# Altium schematic symbol library SwitchingPowerSupply_Symbols.SchLib: 19 symbols
Pins are listed as number, name and electrical type; pins without a type are passive.

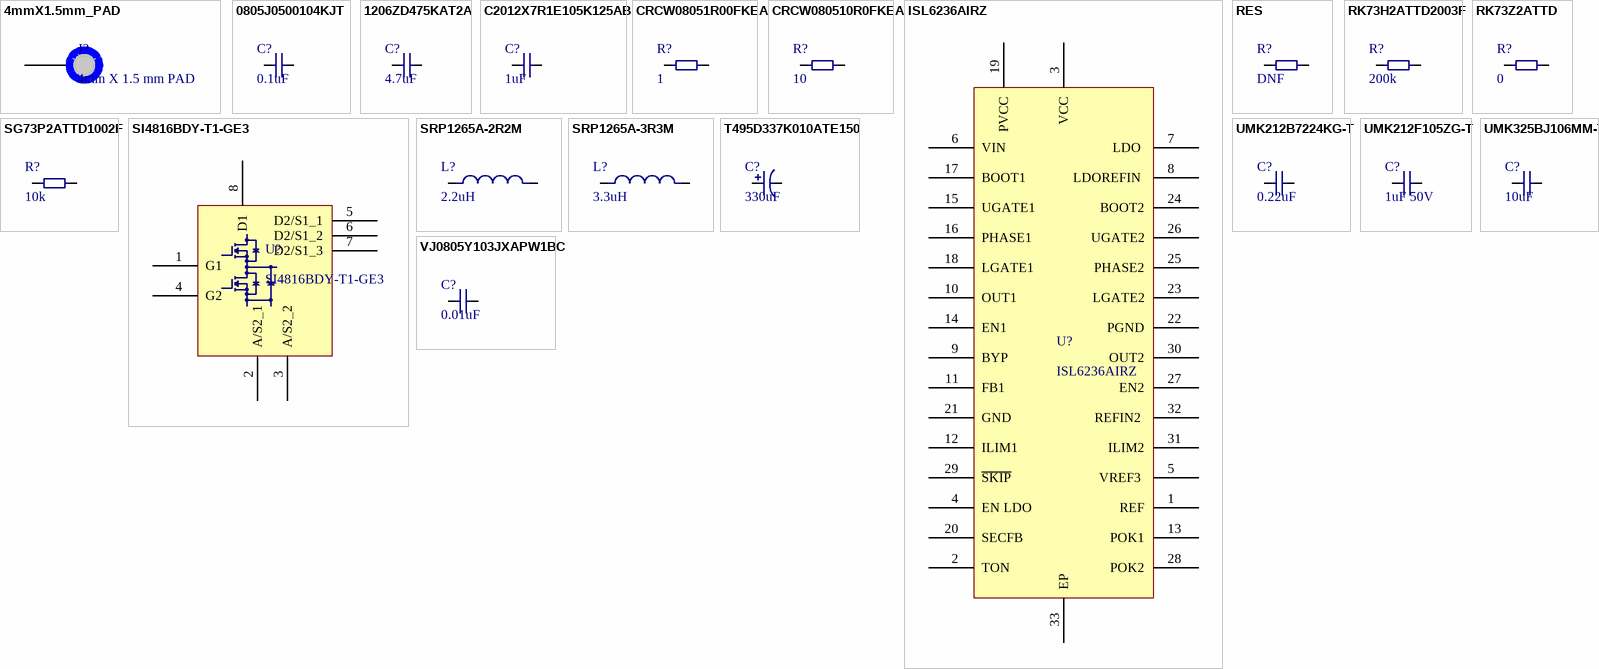
[diagram p0: symbols 4mmX1.5mm_PAD to VJ0805Y103JXAPW1BC]

## 4mmX1.5mm_PAD
designator J?, comment 4mm X 1.5 mm PAD
Elliptical pad 4mm x 1.5 mm
footprint PAD_WITH_HOLE_4mmX1.5mm
pins: 1

## 0805J0500104KJT
designator C?, comment 0.1uF
Multilayer Ceramic Capacitors MLCC - SMD/SMT 50volts 0.1uF 10%; Manufacturer: Syfer; Manufacturer Part Number: 0805J0500104KJT; Type: X7R MLC Capacitor; Voltage Rating: 50 V; Temperature Coefficient/Code: X7R; Product Status: New at Mouser; Supplier 1: Mouser; RoHS: RoHS Compliant; Category: Multilayer Ceramic Capacitors MLCC - SMD/SMT; Stock 1: 0; Pricing 1: 1=0.048, 50=0.047, 100=0.044, 500=0.041, 1000=0.034, 3000=0.030, 6000=0.029, 9000=0.027, 12000=0.022 (EUR); Capacitance: 0.1 uF; Operating Temperature Range: - 55 C to + 125 C; Package/Case: 0805 (2012 metric); Packaging: Reel; Product: General Type MLCCs; Series: PSL; Termination Style: SMD/SMT; Tolerance: 10 %; Brand: Syfer; Case Code - in: 0805; Case Code - mm: 2012; Maximum Operating Temperature: + 125 C; Minimum Operating Temperature: - 55 C; RoHS - Mouser: Y; Minimum Order Quantity: 1; Reeling: True; ComponentLink1URL: http://www.mouser.com/ds/2/394/SL-335134.pdf; ComponentLink1Description: http://www.mouser.com/ds/2/394/SL-335134.pdf
footprint C0805
pins: 1, 2

## 1206ZD475KAT2A
designator C?, comment 4.7uF
Multilayer Ceramic Capacitors MLCC - SMD/SMT 1206 4.7uF 10volts X5R 10%; Manufacturer: AVX; Manufacturer Part Number: 1206ZD475KAT2A; Type: Commercial Surface Mount Chip; Voltage Rating: 10 V; Case Height: 0.07 mm; Case Length: 3.2 mm; Case Width: 1.6 mm; Supplier 1: Mouser; RoHS: RoHS Compliant By Exemption; Category: Multilayer Ceramic Capacitors MLCC - SMD/SMT; Stock 1: 2430; Pricing 1: 1=0.216, 50=0.172, 100=0.091, 500=0.074, 1000=0.068, 2000=0.061, 4000=0.056, 8000=0.054, 12000=0.046 (EUR); Capacitance: 4.7 uF; Operating Temperature Range: - 55 C to + 85 C; Package/Case: 1206 (3216 metric); Packaging: Reel; Product: General Type MLCCs; Series: 1206; Termination Style: SMD/SMT; Tolerance: 10 %; Brand: AVX; Case Code - in: 1206; Case Code - mm: 3216; Product Category: High Capacitance SMD Ceramic Chip Capacitors; Standard Pack Qty: 2000; Temperature Coefficient/Code: X5R; RoHS - Mouser: E; Minimum Order Quantity: 1; Reeling: True; ComponentLink1URL: http://www.avx.com/docs/Catalogs/cx5r.pdf; ComponentLink1Description: http://www.avx.com/docs/Catalogs/cx5r.pdf
footprint C1206
pins: 1, 2

## C2012X7R1E105K125AB
designator C?, comment 1uF
Multilayer Ceramic Capacitors MLCC - SMD/SMT 0805 1uF 25volts X7R 10%; Manufacturer: TDK; Manufacturer Part Number: C2012X7R1E105K125AB; Type: Multilayer Ceramic Chip Capacitor; Voltage Rating: 25 V; Case Height: 1.25 mm; Case Length: 2 mm; Supplier 1: Mouser; RoHS: RoHS Compliant; Category: Multilayer Ceramic Capacitors MLCC - SMD/SMT; Stock 1: 140119; Pricing 1: 1=0.120, 10=0.050, 100=0.030, 1000=0.024, 2000=0.018, 10000=0.017, 24000=0.016, 50000=0.014, 100000=0.012 (EUR); Capacitance: 1 uF; Operating Temperature Range: - 55 C to + 125 C; Package/Case: 0805 (2012 metric); Packaging: Reel; Product: General Type MLCCs; Series: C; Termination Style: SMD/SMT; Tolerance: 10 %; Brand: TDK; Case Code - in: 0805; Case Code - mm: 2012; Case Width: 1.25 mm; Product Category: High Capacitance SMD Ceramic Chip Capacitors; Standard Pack Qty: 2000; Temperature Coefficient/Code: X7R; RoHS - Mouser: Y; Minimum Order Quantity: 1; Reeling: True; ComponentLink1URL: http://www.mouser.com/ds/2/400/C2012X7R1E105K125AB-264897.pdf; ComponentLink1Description: http://www.mouser.com/ds/2/400/C2012X7R1E105K125AB-264897.pdf
footprint C0805
pins: 1, 2

## CRCW08051R00FKEA
designator R?, comment 1
Thick Film Resistors - SMD 1/8watt 1ohms 100ppm; Manufacturer: Vishay / Dale; Manufacturer Part Number: CRCW08051R00FKEA; Power Rating: 125 mW (1/8 W); Temperature Coefficient: 100 PPM / K; Tolerance: 1 %; Voltage Rating: 150 V; Case Height: 0.45 mm; Case Length: 2 mm; Case Width: 1.25 mm; Supplier 1: Mouser; RoHS: RoHS Compliant By Exemption; Category: Thick Film Resistors - SMD; Stock 1: 93546; Pricing 1: 1=0.064, 10=0.038, 100=0.022, 1000=0.014, 5000=0.004, 100000=0.003 (EUR); Operating Temperature Range: - 55 C to + 155 C; Package/Case: 0805 (2012 metric); Packaging: Reel; Product: Thick Film Resistors SMD; Resistance: 1 Ohms; Series: CRCW; Brand: Vishay / Dale; Case Code - in: 0805; Case Code - mm: 2012; Product Category: 0805 Thick Film Chip Resistors; Standard Pack Qty: 5000; RoHS - Mouser: E; Minimum Order Quantity: 1; Reeling: True; ComponentLink1URL: http://www.mouser.com/ds/2/427/dcrcwe3-109170.pdf; ComponentLink1Description: http://www.mouser.com/ds/2/427/dcrcwe3-109170.pdf
footprint R0805
pins: 1, 2

## CRCW080510R0FKEA
designator R?, comment 10
Thick Film Resistors - SMD 1/8watt 10ohms 1% 100ppm; Manufacturer: Vishay / Dale; Manufacturer Part Number: CRCW080510R0FKEA; Power Rating: 125 mW (1/8 W); Temperature Coefficient: 100 PPM / K; Voltage Rating: 150 V; Case Height: 0.45 mm; Case Length: 2 mm; Case Width: 1.25 mm; Supplier 1: Mouser; RoHS: RoHS Compliant By Exemption; Category: Thick Film Resistors - SMD; Stock 1: 355552; Pricing 1: 1=0.064, 10=0.038, 100=0.022, 1000=0.014, 5000=0.004, 100000=0.003 (EUR); Operating Temperature Range: - 55 C to + 155 C; Package/Case: 0805 (2012 metric); Packaging: Reel; Product: Thick Film Resistors SMD; Resistance: 10 Ohms; Series: CRCW; Tolerance: 1 %; Brand: Vishay / Dale; Case Code - in: 0805; Case Code - mm: 2012; Product Category: 0805 Thick Film Chip Resistors; Standard Pack Qty: 5000; RoHS - Mouser: E; Minimum Order Quantity: 1; Reeling: True; ComponentLink1URL: http://www.mouser.com/ds/2/427/dcrcwe3-109170.pdf; ComponentLink1Description: http://www.mouser.com/ds/2/427/dcrcwe3-109170.pdf
footprint R0805
pins: 1, 2

## ISL6236AIRZ
designator U?
Switching Controllers ISL6236 QD QUTPUT CNTRLR IMVP-6 32LD; Manufacturer: Intersil; Number of Outputs: 2; Output Current: 20000 mA; Switching Frequency: 200 KHz, 300 KHz, 400 KHz, 500 KHz; Supplier 1: Mouser; Manufacturer Part Number: ISL6236AIRZ; RoHS: RoHS Compliant; Category: Switching Controllers; Stock 1: 36; Pricing 1: 1=8.69, 25=7.06, 100=5.99, 500=4.01 (AUD); Package / Case: QFN EP; Packaging: Tube; Series: ISL6236; Brand: Intersil; Maximum Operating Temperature: + 100 C; Minimum Operating Temperature: - 40 C; Standard Pack Qty: 60; RoHS - Mouser: Y; Minimum Order Quantity: 1; Reeling: False; ComponentLink1URL: http://www.mouser.com/ds/2/465/fn6453-80078.pdf; ComponentLink1Description: http://www.mouser.com/ds/2/465/fn6453-80078.pdf; Supplier Part Number 1: 968-ISL6236AIRZ
footprint L32.5x5B
pins: 1 REF "2V Reference Output. Bypass to GND with a 0.1µF (min) capacitor. REF can source up to 50µA for external loads.   Loading REF degrades FB and output accuracy according to the REF load-regulation error.", 2 TON  "Frequency Select Input. Connect to GND for 400kHz/500kHz operation. Connect to REF (or leave OPEN) for   400kHz/300kHz operation. Connect to VCC for 200kHz/300kHz operation (5V/3.3V SMPS switching frequencies,  respectively).", 3 VCC "Analog Supply Voltage Input for PWM Core. Bypass to GND with a 1µF ceramic capacitor.", 4 EN LDO "LDO Enable Input. The LDO is enabled if EN LDO is within logic high level and disabled if EN LDO is less than the logic   low level.", 5 VREF3  "3.3V Reference Output. VREF3 can source up to 5mA for external loads. Bypass to GND with a 0.01µF capacitor if   loaded. Leave open if there is no load.", 6 VIN "Power-Supply Input. VIN is used for the constant-on-time PWM on-time one-shot circuits. VIN is also used to power the   linear regulators. The linear regulators are powered by SMPS1 if OUT1 is set greater than 4.78V and BYP is tied to  OUT1. Connect VIN to the battery input and bypass with a 1µF capacitor.", 7 LDO  "Linear-Regulator Output. LDO can provide a total of 100mA external loads. The LDO regulates at 5V If LDOREFIN is   connected to GND. When the LDO is set at 5V and BYP is within 5V switchover threshold, the internal regulator shuts  down and the LDO output pin connects to BYP through a 0.7Ω switch. The LDO regulates at 3.3V if LDOREFIN is  connected to VCC. When the LDO is set at 3.3V and BYP is within the 3.3V switchover threshold, the internal regulator  shuts down and the LDO output pin connects to BYP through a 1.5Ω switch. Bypass LDO output with a minimum of  4.7µF ceramic.", 8 LDOREFIN  "LDO Reference Input. Connect LDOREFIN to GND for fixed 5V operation. Connect LDOREFIN to VCC for fixed 3.3V   operation. LDOREFIN can be used to program LDO output voltage from 0.7V to 4.5V. LDO output is two times the  voltage of LDOREFIN. There is no switchover in adjustable mode.", 9 BYP  "BYP is the switchover source voltage for the LDO when LDOREFIN is connected to GND or VCC. Connect BYP to 5V   if LDOREFIN is tied to GND. Connect BYP to 3.3V if LDOREFIN is tied to VCC.", 10 OUT1  "SMPS1 Output Voltage-Sense Input. Connect to the SMPS1 output. OUT1 is an input to the Constant on-time-PWM   on-time one-shot circuit. It also serves as the SMPS1 feedback input in fixed-voltage mode.", 11 FB1 "SMPS1 Feedback Input. Connect FB1 to GND for fixed 5V operation. Connect FB1 to VCC for fixed 1.5V operation.   Connect FB1 to a resistive voltage-divider from OUT1 to GND to adjust the output from 0.7V to 5.5V.", 12 ILIM1  "SMPS1 Current-Limit Adjustment. The GND-PHASE1 current-limit threshold is 1/10th the voltage seen at ILIM1 over a   0.2V to 2V range. There is an internal 5µA current source from VCC to ILIM1. Connect ILIM1 to REF for a fixed 200mV  threshold. The logic current limit threshold is default to 100mV value if ILIM1 is higher than VCC - 1V.", 13 POK1 "SMPS1 Power-Good Open-Drain Output. POK1 is low when the SMPS1 output voltage is more than 10% below the   normal regulation point or during soft-start. POK1 is high impedance when the output is in regulation and the soft-start  circuit has terminated. POK1 is low in shutdown.", 14 EN1 "SMPS1 Enable Input. The SMPS1 is enabled if EN1 is greater than the logic high level and disabled if EN1 is less than   the logic low level. If EN1 is connected to REF, the SMPS1 starts after the SMPS2 reaches regulation (delay start). Drive   EN1 below 0.8V to clear fault level and reset the fault latches.", 15 UGATE1 "High-Side MOSFET Floating Gate-Driver Output for SMPS1. UGATE1 swings between PHASE1 and BOOT1.", 16 PHASE1 "Inductor Connection for SMPS1. PHASE1 is the internal lower supply rail for the UGATE1 high-side gate driver.   PHASE1 is the current-sense input for the SMPS1.", 17 BOOT1 "Boost Flying Capacitor Connection for SMPS1. Connect to an external capacitor according to the “Typical Application   Circuits” on page 19 (Figures 66, 67 and 68). See “MOSFET Gate Drivers (UGATE, LGATE)” on page 29.", 18 LGATE1 "SMPS1 Synchronous-Rectifier Gate-Drive Output. LGATE1 swings between GND and PVCC.", 19 PVCC "PVCC is the supply voltage for the low-side MOSFET driver LGATE. Connect a 5V power source to the PVCC pin and   bypass to PGND with a 1µF MLCC ceramic capacitor. Refer to Figure 70 - A switch connects PVCC to VCC with 10Ω  when in normal operation and is disconnected when in shutdown mode. An external 10Ω resistor from PVCC to VCC   is prohibited as it will create a leakage path from VIN to GND in shutdown mode.", 20 SECFB "The SECFB is used to monitor the optional external 14V charge pump. Connect a resistive voltage-divider from 14V   charge pump output to GND to detect the output. If SECFB drops below the threshold voltage, LGATE1 turns on for  300ns. This will refresh the external charge pump driven by LGATE1 without over-discharging the output voltage.", 21 GND "Analog Ground for both SMPS and LDO. Connect externally to the underside of the exposed pad.", 22 PGND "Power Ground for SMPS controller. Connect PGND externally to the underside of the exposed pad.", 23 LGATE2 "SMPS2 Synchronous-Rectifier Gate-Drive Output. LGATE2 swings between GND and PVCC.", 24 BOOT2 "Boost Flying Capacitor Connection for SMPS2. Connect to an external capacitor according to the “Typical Application   Circuits” on page 19 (Figures 66, 67 and 68). See “MOSFET Gate Drivers (UGATE, LGATE)” on page 29.", 25 PHASE2 "Inductor Connection for SMPS2. PHASE2 is the internal lower supply rail for the UGATE2 high-side gate driver.   PHASE2 is the current-sense input for the SMPS2.", 26 UGATE2 "High-Side MOSFET Floating Gate-Driver Output for SMPS2. UGATE1 swings between PHASE2 and BOOT2.", 27 EN2 "SMPS2 Enable Input. The SMPS2 is enabled if EN2 is greater than the logic high level and disabled if EN2 is less than   the logic low level. If EN2 is connected to REF, the SMPS2 starts after the SMPS1 reaches regulation (delay start). Drive  EN2 below 0.8V to clear fault level and reset the fault latches.", 28 POK2 "SMP2 Power-Good Open-Drain Output. POK2 is low when the SMPS2 output voltage is more than 10% below the   normal regulation point or during soft-start. POK2 is high impedance when the output is in regulation and the soft-start  circuit has terminated. POK2 is low in shutdown.", 29 ~{SKIP} "Low-Noise Mode Control. Connect \S\K\I\P to GND for normal Idle-Mode (pulse-skipping) operation or to VCC for PWM   mode (fixed frequency). Connect to REF or leave floating for ultrasonic skip mode operation.", 30 OUT2 "SMPS2 Output Voltage-Sense Input. Connect to the SMPS2 output. OUT2 is an input to the Constant on-time-PWM   on-time one-shot circuit. It also serves as the SMPS2 feedback input in fixed-voltage mode.", 31 ILIM2 "SMPS2 Current-Limit Adjustment. The GND-PHASE1 current-limit threshold is 1/10th the voltage seen at ILIM2 over a   0.2V to 2V range. There is an internal 5µA current source from VCC to ILIM2. Connect ILIM2 to REF for a fixed 200mV.  The logic current limit threshold is default to 100mV value if ILIM2 is higher than VCC - 1V.", 32 REFIN2  "Output voltage control for SMPS2. Connect REFIN2 to VCC for fixed 3.3V. Connect REFIN2 to VREF3 for fixed 1.05V.   REFIN2 can be used to program SMPS2 output voltage from 0.5V to 2.50V. SMPS2 output voltage is 0V if  REFIN2 < 0.5V.", 33 EP "Exposed Pad"

## RES
designator R?, comment DNF
Generic Do Not Fit Capacitor
footprint R0805
pins: 1, 2

## RK73H2ATTD2003F
designator R?, comment 200k
Thick Film Resistors - SMD 1/8watts 200Kohms 1%; Manufacturer: KOA Speer; Manufacturer Part Number: RK73H2ATTD2003F; Power Rating: 125 mW (1/8 W); Temperature Coefficient: 100 PPM / C; Voltage Rating: 150 V; Case Height: 0.5 mm; Case Length: 2 mm; Case Width: 1.25 mm; Supplier 1: Mouser; RoHS: RoHS Compliant By Exemption; Category: Thick Film Resistors - SMD; Stock 1: 67759; Pricing 1: 1=0.064, 10=0.011, 100=0.006, 5000=0.003, 10000=0.002 (EUR); Operating Temperature Range: - 55 C to + 155 C; Package/Case: 0805 (2012 metric); Packaging: Reel; Product: Thick Film Resistors SMD; Resistance: 200 kOhms; Series: RK73H; Tolerance: 1 %; Brand: KOA Speer; Case Code - in: 0805; Case Code - mm: 2012; Product Category: 0805 SMD Thick Film Chip Resistors; Standard Pack Qty: 5000; RoHS - Mouser: E; Minimum Order Quantity: 1; Reeling: True; ComponentLink1URL: http://www.koaspeer.com/catimages/Products/RK73H/RK73H.pdf; ComponentLink1Description: http://www.koaspeer.com/catimages/Products/RK73H/RK73H.pdf
footprint R0805
pins: 1, 2

## RK73Z2ATTD
designator R?, comment 0
Thick Film Resistors - SMD ZEROohms JUMPER; Manufacturer: KOA Speer; Manufacturer Part Number: RK73Z2ATTD; Resistance: 0 Ohms; Case Height: 0.5 mm; Case Length: 2 mm; Case Width: 1.25 mm; Supplier 1: Mouser; RoHS: RoHS Compliant By Exemption; Category: Thick Film Resistors - SMD; Stock 1: 872384; Pricing 1: 1=0.064, 10=0.010, 100=0.005, 1000=0.003, 5000=0.002 (EUR); Operating Temperature Range: - 55 C to + 155 C; Package/Case: 0805 (2012 metric); Packaging: Reel; Power Rating: -; Product: Thick Film Resistors Zero-Ohm; Series: RK73Z; Temperature Coefficient: -; Tolerance: -; Voltage Rating: -; Brand: KOA Speer; Case Code - in: 0805; Case Code - mm: 2012; Product Category: 0805 SMD Thick Film Chip Resistors; Standard Pack Qty: 5000; RoHS - Mouser: E; Minimum Order Quantity: 1; Reeling: True; ComponentLink1URL: http://www.mouser.com/ds/2/219/RK73Z-11765.pdf; ComponentLink1Description: http://www.mouser.com/ds/2/219/RK73Z-11765.pdf
footprint R0805
pins: 1, 2

## SG73P2ATTD1002F
designator R?, comment 10k
Thick Film Resistors - SMD 0.25W 10Kohm 1% 200ppm; Manufacturer: KOA Speer; Manufacturer Part Number: SG73P2ATTD1002F; Power Rating: 250 mW (1/4 W); Resistance: 10 kOhms; Temperature Coefficient: 200 PPM / C; Voltage Rating: 150 V; Case Height: 0.5 mm; Case Length: 2 mm; Case Width: 1.25 mm; Supplier 1: Mouser; RoHS: RoHS Compliant By Exemption; Category: Thick Film Resistors - SMD; Stock 1: 866; Pricing 1: 1=0.162, 10=0.138, 100=0.119, 500=0.105, 1000=0.089, 5000=0.074, 10000=0.070, 25000=0.065, 50000=0.061 (AUD); Operating Temperature Range: - 55 C to + 155 C; Package / Case: 0805 (2012 metric); Packaging: Reel; Product: Thick Film Resistors SMD; Series: SG73; Tolerance: 1 %; Type: Surge Current Thick Film Chip Resistor; Brand: KOA Speer; Case Code - in: 0805; Case Code - mm: 2012; Standard Pack Qty: 5000; RoHS - Mouser: E; Minimum Order Quantity: 1; Reeling: True; ComponentLink1URL: http://www.koaspeer.com/catimages/Products/SG73/SG73.pdf; ComponentLink1Description: http://www.koaspeer.com/catimages/Products/SG73/SG73.pdf
footprint R0805
pins: 1, 2

## SI4816BDY-T1-GE3
designator U?
MOSFET Dua lN-Ch w/Schottky 30V 18.5/11.5mohm; Manufacturer: Vishay / Siliconix; Configuration: Dual with Schottky Diode; Transistor Polarity: N-Channel; Channel Mode: Enhancement; Fall Time: 9 ns; Id - Continuous Drain Current: 5.8 A; Pd - Power Dissipation: 1 W, 1.25 W; Rds On - Drain-Source Resistance: 15.5 mOhms, 9.3 mOhms; Typical Turn-Off Delay Time: 24 ns, 31 ns; Vgs - Gate-Source Breakdown Voltage: 20 V; Supplier 1: Mouser; Manufacturer Part Number: SI4816BDY-T1-GE3; RoHS: RoHS Compliant; Category: MOSFET; Stock 1: 4499; Pricing 1: 1=1.06, 50=0.976, 100=0.952, 500=0.848, 1000=0.760, 2500=0.680, 5000=0.656, 10000=0.640, 15000=0.616 (EUR); Package/Case: SOIC-8 Narrow; Packaging: Reel; Brand: Vishay / Siliconix; Mounting Style: SMD/SMT; Maximum Operating Temperature: + 150 C; Minimum Operating Temperature: - 55 C; Product Category: Dual MOSFETs; Rise Time: 9 ns; Standard Pack Qty: 2500; Vds - Drain-Source Breakdown Voltage: 30 V; RoHS - Mouser: Y; Minimum Order Quantity: 1; Reeling: True; ComponentLink1URL: http://www.vishay.com/doc?73026; ComponentLink1Description: http://www.vishay.com/doc?73026
footprint SO-8
pins: 1 G1, 2 A/S2_1, 3 A/S2_2, 4 G2, 5 D2/S1_1, 6 D2/S1_2, 7 D2/S1_3, 8 D1

## SRP1265A-2R2M
designator L?, comment 2.2uH
Fixed Inductors 2.2uH 20% SMD 1265; Manufacturer: Bourns; Manufacturer Part Number: SRP1265A-2R2M; Core Material: Carbonyl Iron Powder; Maximum DC Current: 37 A; Maximum DC Resistance: 4.2 mOhms; Shielding: Shielded; Type: Shielded Power Inductor; Case Height: 6.2 mm; Case Length: 13.5 mm; Case Width: 12.5 mm; Test Frequency: 100 kHz; Product Status: New at Mouser; Supplier 1: Mouser; RoHS: RoHS Compliant; Category: Fixed Inductors; Stock 1: 246; Pricing 1: 1=1.19, 10=0.959, 50=0.889, 100=0.847, 250=0.773, 500=0.535, 1000=0.526, 2500=0.513, 5000=0.483 (EUR); Inductance: 2.2 uH; Operating Temperature Range: - 40 C to + 150 C; Packaging: Reel; Product: Power Inductors; Series: SRP1265A; Termination Style: SMD/SMT; Tolerance: 20 %; Brand: Bourns; RoHS - Mouser: Y; Minimum Order Quantity: 1; Reeling: True; ComponentLink1URL: http://www.mouser.com/ds/2/54/bourns_SRP1265A-338573.pdf; ComponentLink1Description: http://www.mouser.com/ds/2/54/bourns_SRP1265A-338573.pdf
footprint SRP1265A
pins: 1, 2

## SRP1265A-3R3M
designator L?, comment 3.3uH
Fixed Inductors 3.3uH 20% SMD 1265; Manufacturer: Bourns; Manufacturer Part Number: SRP1265A-3R3M; Core Material: Carbonyl Iron Powder; Maximum DC Current: 30 A; Maximum DC Resistance: 6.8 mOhms; Shielding: Shielded; Type: Shielded Power Inductor; Case Height: 6.2 mm; Case Length: 13.5 mm; Case Width: 12.5 mm; Test Frequency: 100 kHz; Product Status: New at Mouser; Supplier 1: Mouser; RoHS: RoHS Compliant; Category: Fixed Inductors; Stock 1: 500; Pricing 1: 1=1.19, 10=0.959, 50=0.889, 100=0.847, 250=0.773, 500=0.535, 1000=0.526, 2500=0.513, 5000=0.483 (EUR); Inductance: 3.3 uH; Operating Temperature Range: - 40 C to + 150 C; Packaging: Reel; Product: Power Inductors; Series: SRP1265A; Termination Style: SMD/SMT; Tolerance: 20 %; Brand: Bourns; RoHS - Mouser: Y; Minimum Order Quantity: 1; Reeling: True; ComponentLink1URL: http://www.mouser.com/ds/2/54/bourns_SRP1265A-338573.pdf; ComponentLink1Description: http://www.mouser.com/ds/2/54/bourns_SRP1265A-338573.pdf
footprint SRP1265A
pins: 1, 2

## T495D337K010ATE150
designator C?, comment 330uF
Tantalum Capacitors - Solid SMD 10volts 330uF 10% ESR=150mOhms; Manufacturer: Kemet; Manufacturer Part Number: T495D337K010ATE150; Mfr Case Code: D Case; Voltage Rating: 10 V; Case Length: 7.3 mm; Case Width: 4.3 mm; Supplier 1: Mouser; RoHS: RoHS Compliant; Category: Tantalum Capacitors - Solid SMD; Stock 1: 11010; Pricing 1: 1=1.47, 10=1.01, 100=0.777, 500=0.660, 1000=0.582, 2500=0.546 (EUR); Capacitance: 330 uF; Height: 3.1 mm; Operating Temperature Range: - 55 C to + 125 C; Package/Case: 2917 (7343 metric); Packaging: Reel; Product: Tantalum Solid Low ESR Industrial Grade; Series: T495; Termination Style: SMD/SMT; Tolerance: 10 %; Brand: Kemet; ESR: 150 mOhms; Case Code - in: 2917; Case Code - mm: 7343; Product Category: SMD Low ESR Tantalum Chip Capacitors; Standard Pack Qty: 500; RoHS - Mouser: Y; Minimum Order Quantity: 1; Reeling: True; ComponentLink1URL: http://www.mouser.com/ds/2/212/KEM_T2009_T495-225625.pdf; ComponentLink1Description: http://www.mouser.com/ds/2/212/KEM_T2009_T495-225625.pdf
footprint 7343-31
pins: 1, 2

## UMK212B7224KG-T
designator C?, comment 0.22uF
Multilayer Ceramic Capacitors MLCC - SMD/SMT CAP MLCC 0805 50V X7R 0.22uF 10%; Manufacturer: Taiyo Yuden; Manufacturer Part Number: UMK212B7224KG-T; Type: Industrial/Automotive and Safety; Case Height: 1.25 mm; Case Length: 2 mm; Supplier 1: Mouser; RoHS: RoHS Compliant; Category: Multilayer Ceramic Capacitors MLCC - SMD/SMT; Stock 1: 25331; Pricing 1: 1=0.096, 10=0.038, 100=0.022, 1000=0.018, 3000=0.014, 9000=0.013, 24000=0.012, 99000=0.011 (EUR); Capacitance: 0.22 uF; Operating Temperature Range: - 55 C to + 125 C; Package/Case: 0805 (2012 metric); Packaging: Reel; Product: General Type MLCCs; Series: M; Termination Style: SMD/SMT; Tolerance: 10 %; Voltage Rating: 50 V; Brand: Taiyo Yuden; Case Code - in: 0805; Case Code - mm: 2012; Case Width: 1.25 mm; Standard Pack Qty: 3000; Temperature Coefficient/Code: X7R; RoHS - Mouser: Y; Minimum Order Quantity: 1; Reeling: True; ComponentLink1URL: http://www.yuden.co.jp/productdata/catalog/en/mlcc01_e.pdf; ComponentLink1Description: http://www.yuden.co.jp/productdata/catalog/en/mlcc01_e.pdf
footprint C0805
pins: 1, 2

## UMK212F105ZG-T
designator C?, comment 1uF 50V
Multilayer Ceramic Capacitors MLCC - SMD/SMT CAP MLCC 0805 50V Y5V 1uF +80/-20%; Manufacturer: Taiyo Yuden; Manufacturer Part Number: UMK212F105ZG-T; Tolerance: - 20 %, + 80 %; Type: Industrial/Automotive and Safety; Case Height: 1.25 mm; Case Length: 2 mm; Supplier 1: Mouser; RoHS: RoHS Compliant; Category: Multilayer Ceramic Capacitors MLCC - SMD/SMT; Stock 1: 113811; Pricing 1: 1=0.088, 10=0.036, 100=0.022, 1000=0.017, 3000=0.013, 9000=0.011, 45000=0.010 (EUR); Capacitance: 1 uF; Operating Temperature Range: - 55 C to + 125 C; Package/Case: 0805 (2012 metric); Packaging: Reel; Product: General Type MLCCs; Series: M; Termination Style: SMD/SMT; Voltage Rating: 50 V; Brand: Taiyo Yuden; Case Code - in: 0805; Case Code - mm: 2012; Case Width: 1.25 mm; Standard Pack Qty: 3000; Temperature Coefficient/Code: Y5V; RoHS - Mouser: Y; Minimum Order Quantity: 1; Reeling: True; ComponentLink1URL: http://www.yuden.co.jp/productdata/catalog/en/mlcc01_e.pdf; ComponentLink1Description: http://www.yuden.co.jp/productdata/catalog/en/mlcc01_e.pdf
footprint C0805
pins: 1, 2

## UMK325BJ106MM-T
designator C?, comment 10uF
Multilayer Ceramic Capacitors MLCC - SMD/SMT CAP MLCC 1210 50V X5R 10uF 20%; Manufacturer: Taiyo Yuden; Manufacturer Part Number: UMK325BJ106MM-T; Type: Industrial/Automotive and Safety; Case Height: 2.5 mm; Case Length: 3.2 mm; Supplier 1: Mouser; RoHS: RoHS Compliant; Category: Multilayer Ceramic Capacitors MLCC - SMD/SMT; Stock 1: 208606; Pricing 1: 1=0.448, 10=0.256, 100=0.128, 500=0.128, 1000=0.102, 5000=0.096, 10000=0.088, 25000=0.086, 50000=0.083, 100000=0.081 (EUR); Capacitance: 10 uF; Operating Temperature Range: - 55 C to + 125 C; Package/Case: 1210 (3225 metric); Packaging: Reel; Product: General Type MLCCs; Series: M; Termination Style: SMD/SMT; Tolerance: 20 %; Voltage Rating: 50 V; Brand: Taiyo Yuden; Case Code - in: 1210; Case Code - mm: 3225; Case Width: 2.5 mm; Standard Pack Qty: 500; Temperature Coefficient/Code: X5R; RoHS - Mouser: Y; Minimum Order Quantity: 1; Reeling: True; ComponentLink1URL: http://www.yuden.co.jp/productdata/catalog/en/mlcc01_e.pdf; ComponentLink1Description: http://www.yuden.co.jp/productdata/catalog/en/mlcc01_e.pdf
footprint C1210
pins: 1, 2

## VJ0805Y103JXAPW1BC
designator C?, comment 0.01uF
Multilayer Ceramic Capacitors MLCC - SMD/SMT 0805 0.01uF 50volts X7R 5%; Manufacturer: Vishay / Vitramon; Manufacturer Part Number: VJ0805Y103JXAPW1BC; Type: Ultra Small Commodity MLCCs; Voltage Rating: 50 V; Case Height: 1.45 mm; Case Length: 2 mm; Case Width: 1.25 mm; Dissipation Factor DF: 2.5; Supplier 1: Mouser; RoHS: RoHS Compliant; Category: Multilayer Ceramic Capacitors MLCC - SMD/SMT; Stock 1: 9873; Pricing 1: 1=0.048, 50=0.016, 100=0.013, 500=0.011, 1000=0.010, 15000=0.008, 75000=0.007 (EUR); Capacitance: 0.01 uF; Operating Temperature Range: - 55 C to + 125 C; Package/Case: 0805 (2012 metric); Packaging: Reel; Product: General Type MLCCs; Series: VJ W1BC; Termination Style: SMD/SMT; Tolerance: 5 %; Brand: Vishay / Vitramon; Case Code - in: 0805; Case Code - mm: 2012; Product Category: Ceramic Chip Capacitors; Standard Pack Qty: 15000; Temperature Coefficient/Code: X7R; RoHS - Mouser: Y; Minimum Order Quantity: 1; Reeling: True; ComponentLink1URL: http://www.mouser.com/ds/2/427/vjw1bcbascomseries-223529.pdf; ComponentLink1Description: http://www.mouser.com/ds/2/427/vjw1bcbascomseries-223529.pdf
footprint C0805
pins: 1, 2